# Altium schematic symbol library Dimer.SchLib: 20 symbols
Pins are listed as number, name and electrical type; pins without a type are passive.

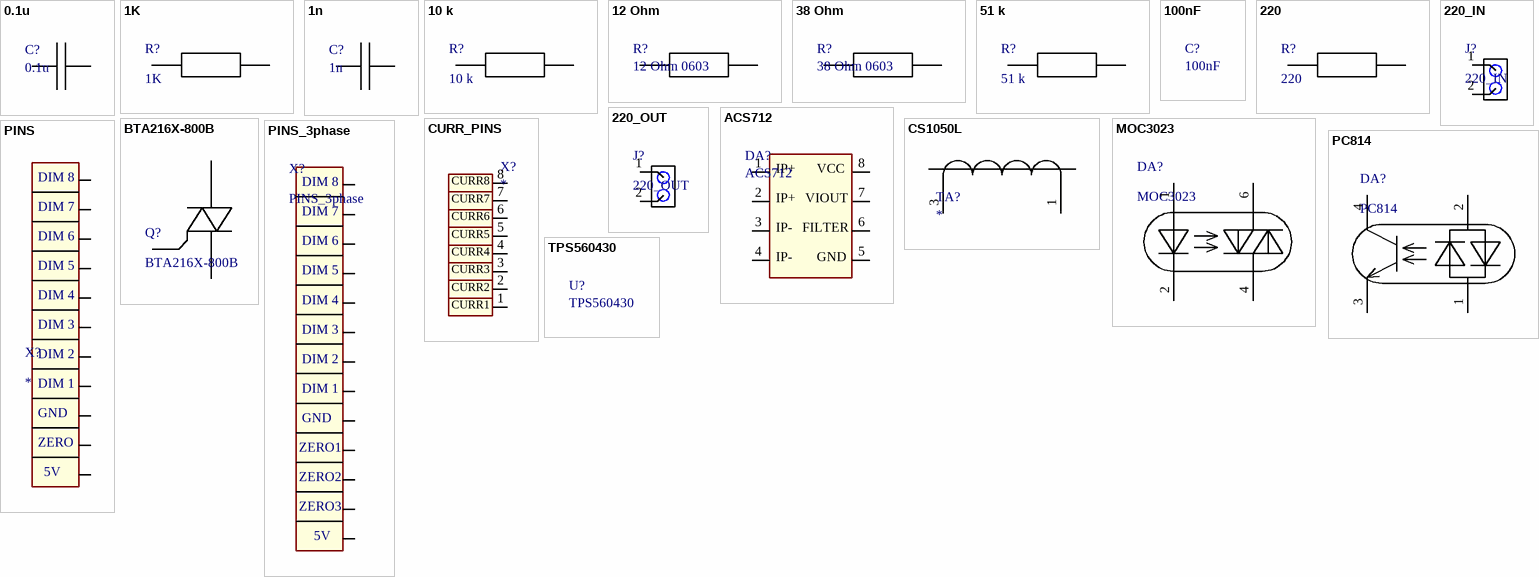
[diagram p0: symbols 0.1u to TPS560430]

## 0.1u
designator C?
Capacitor
footprint 0603C (Chip Capacitor, 2-Leads, Body 1.60x0.80mm, IPC Medium Density)
pins: 1, 2

## 1K
designator R?
Resistor
footprint 51 / 1 / 10 KOhm 2816 (Chip Resistor, 2-Leads, Body 7.10x4.20mm, IPC Medium Density)
pins: 1, 2

## 1n
designator C?
Capacitor
footprint 0603C (Chip Capacitor, 2-Leads, Body 1.60x0.80mm, IPC Medium Density)
pins: 1, 2

## 10 k
designator R?
Resistor
footprint RESC2012X06N (Chip Resistor, 2-Leads, Body 2.00x1.25mm, IPC Medium Density)
pins: 1, 2

## 12 Ohm
designator R?, comment 12 Ohm 0603
Resistor
footprint R0603 (Chip Resistor, 2-Leads, Body 1.60x0.80mm, IPC Medium Density)
pins: 1, 2

## 38 Ohm
designator R?, comment 38 Ohm 0603
Resistor
footprint R0603 (Chip Resistor, 2-Leads, Body 1.60x0.80mm, IPC Medium Density)
pins: 1, 2

## 51 k
designator R?
Resistor
footprint 51 / 1 / 10 KOhm 2816 (Chip Resistor, 2-Leads, Body 7.10x4.20mm, IPC Medium Density)
pins: 1, 2

## 100nF
designator C?
Capasitor

## 220
designator R?
Resistor
footprint RESC2012X06N (Chip Resistor, 2-Leads, Body 2.00x1.25mm, IPC Medium Density)
pins: 1, 2

## 220_IN
designator J?
220 Input
footprint 220_IN (KF301-500-02)
pins: 1 (power), 2 (power)

## 220_OUT
designator J?
220 Output
footprint 220_OUT (KF301-500-02)
pins: 1 (power), 2 (power)

## ACS712
designator DA?
footprint SOIC127P600X175-8N (SOIC, 8-Leads, Body 5.00x4.00mm, Pitch 1.27mm, IPC Medium Density)
pins: 1 IP+, 2 IP+, 3 IP-, 4 IP-, 5 GND (power), 6 Filter (power), 7 VIOUT (power) "Vout", 8 VCC (power)
text: FILTER

## BTA216X-800B
designator Q?
Semistor
footprint SOT78
pins: 1 T1 (power) "main terminal 1", 2 T2 (power) "main terminal 2", 3 G (power) "gate"

## CS1050L
designator TA?
CS1050L
footprint CS1200L
pins: 1, 3

## CURR_PINS
designator X?
footprint CURR_PINS_PLS
pins: 1 CURR1 "1", 2 CURR2 "2", 3 CURR8 "8", 4 CURR4 "4", 5 CURR5 "5", 6 CURR6 "6", 7 CURR7 "7", 8 CURR8 "8"
text: CURR3

## MOC3023
designator DA?
footprint SOIC127P1050X60-6N (SOIC, 6-Leads, Body 7.62x7.00mm, Pitch 1.27mm, IPC Medium Density)
pins: 1 Anode, 2 Cathode, 4 Main terminal (power), 6 Main terminal (power)

## PC814
designator DA?
footprint PC814
pins: 1 Anode,Cathode (power), 2 Anode,Cathode (power), 3 Emiter, 4 Collector

## PINS
designator X?
pins: 1, 1, 1, 1, 1, 1, 1, 1, 2, 3, 4
text: DIM 8; DIM 7; DIM 6; DIM 5; DIM 4; DIM 3; DIM 2; DIM 1; GND; ZERO; 5V

## PINS_3phase
designator X?
footprint PLS
pins: 1 DIM_8, 2 DIM_7, 3 DIM_6, 4 DIM_5, 5 DIM_4, 6 DIM_3, 7 DIM_2, 8 DIM_1, 9 GND (power), 10 ZERO1, 11 ZERO2, 12 ZERO3, 13 5V (power)
text: DIM 8; DIM 7; DIM 6; DIM 5; DIM 4; DIM 3; DIM 2; DIM 1

## TPS560430
designator U?